# Altium integrated library NXP Semiconductors Automotive MOSFETs.IntLib: 540 symbols (part 4 of 16)
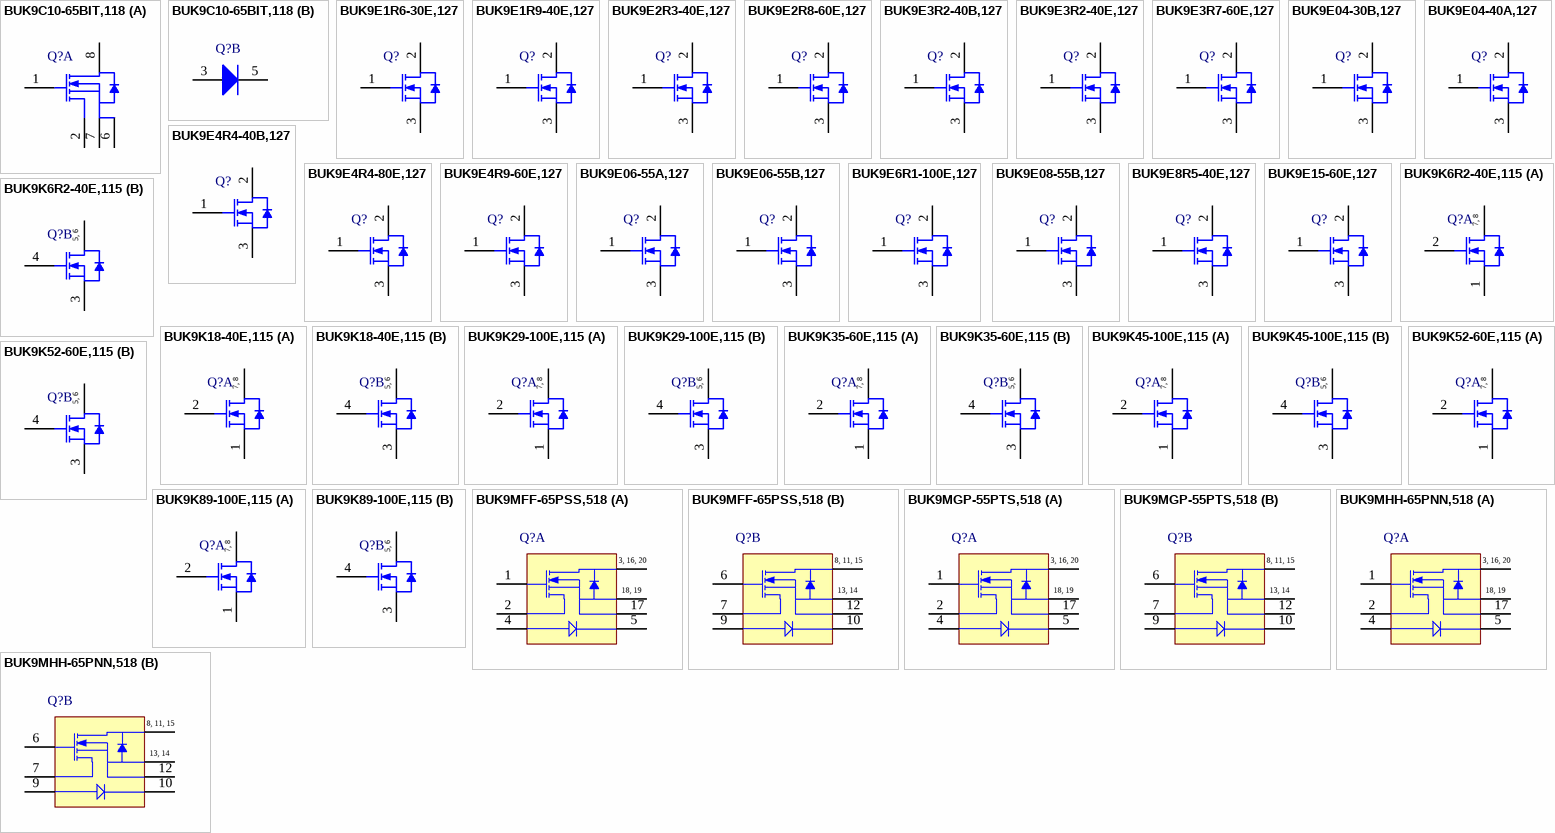
[diagram p17: symbols BUK9C10-65BIT,118 to BUK9MHH-65PNN,518]

## BUK9E2R3-40E,127
designator Q?
N-Channel TrenchMOS Logic Level FET, 40 V, 120 A, 3-Pin SOT226, Rail; Manufacturer: NXP Semiconductors; PartNumber: BUK9E2R3-40E,127; Automotive Qualified: Y; Channel Type: N; ID [max] (A): 120; IDM [max] (A): 988; Qr [typ] (nC): 62; VDS [max] (V): 40; VGSth [typ] (V): 1.7; PackageVersion: 09-08-25, 08/2009; PackageReference: SOT226; PackageDescription: 3-Pin Flange Mount, Vertical Straight Lead, Body 10 x 4.3 mm, Pitch 2.54 mm; Supplier 1: Digi-Key; Supplier Part Number 1: 568-9871-5-ND; Supplier 2: Mouser; Supplier Part Number 2: 771-BUK9E2R3-40E127; Packing: Rail; Mounting Technology: Through Hole; Code_JEDEC: TO-262; ComponentLink1Description: Manufacturer URL; ComponentLink1URL: http://www.nxp.com/; ComponentLink2Description: Datasheet; ComponentLink2URL: http://www.nxp.com/documents/data_sheet/BUK9E2R3-40E.pdf; ComponentLink3Description: Package Specification; ComponentLink3URL: http://www.nxp.com/documents/outline_drawing/sot226_po.pdf
footprint NXP-SOT226 (FM, 3-Leads, Body 10.3x4.5mm, Pitch 2.54mm)
pins: 1 G "gate", 2 D "drain", 3 S "source"

## BUK9E2R8-60E,127
designator Q?
N-Channel TrenchMOS Logic Level FET, 60 V, 120 A, 3-Pin SOT226, Rail; Manufacturer: NXP Semiconductors; PartNumber: BUK9E2R8-60E,127; Automotive Qualified: Y; Channel Type: N; ID [max] (A): 120; IDM [max] (A): 952; Qr [typ] (nC): 98; VDS [max] (V): 60; VGSth [typ] (V): 1.7; PackageVersion: 09-08-25, 08/2009; PackageReference: SOT226; PackageDescription: 3-Pin Flange Mount, Vertical Straight Lead, Body 10 x 4.3 mm, Pitch 2.54 mm; Supplier 1: Digi-Key; Supplier Part Number 1: 568-9872-5-ND; Supplier 2: Mouser; Supplier Part Number 2: 771-BUK9E2R8-60E127; Packing: Rail; Mounting Technology: Through Hole; Code_JEDEC: TO-262; ComponentLink1Description: Manufacturer URL; ComponentLink1URL: http://www.nxp.com/; ComponentLink2Description: Datasheet; ComponentLink2URL: http://www.nxp.com/documents/data_sheet/BUK9E2R8-60E.pdf; ComponentLink3Description: Package Specification; ComponentLink3URL: http://www.nxp.com/documents/outline_drawing/sot226_po.pdf
footprint NXP-SOT226 (FM, 3-Leads, Body 10.3x4.5mm, Pitch 2.54mm)
pins: 1 G "gate", 2 D "drain", 3 S "source"

## BUK9E3R2-40B,127
designator Q?
N-Channel TrenchMOS Logic Level FET, 40 V, 3-Pin SOT226, Rail; Manufacturer: NXP Semiconductors; PartNumber: BUK9E3R2-40B,127; Automotive Qualified: Y; Channel Type: N; IDM [max] (A): 888; Qr [typ] (nC): 127; VDS [max] (V): 40; VGSth [typ] (V): 1.5; PackageVersion: 09-08-25, 08/2009; PackageReference: SOT226; PackageDescription: 3-Pin Flange Mount, Vertical Straight Lead, Body 10 x 4.3 mm, Pitch 2.54 mm; Supplier 1: Digi-Key; Supplier Part Number 1: 568-6639-5-ND; Supplier 2: Mouser; Supplier Part Number 2: 771-BUK9E3R2-40B127; Packing: Rail; Mounting Technology: Through Hole; Code_JEDEC: TO-262; ComponentLink1Description: Manufacturer URL; ComponentLink1URL: http://www.nxp.com/; ComponentLink2Description: Datasheet; ComponentLink2URL: http://www.nxp.com/documents/data_sheet/BUK9E3R2-40B.pdf; ComponentLink3Description: Package Specification; ComponentLink3URL: http://www.nxp.com/documents/outline_drawing/sot226_po.pdf
footprint NXP-SOT226 (FM, 3-Leads, Body 10.3x4.5mm, Pitch 2.54mm)
pins: 1 G "gate", 2 D "drain", 3 S "source"

## BUK9E3R2-40E,127
designator Q?
N-Channel TrenchMOS Logic Level FET, 40 V, 100 A, 3-Pin SOT226, Rail; Manufacturer: NXP Semiconductors; PartNumber: BUK9E3R2-40E,127; Automotive Qualified: Y; Channel Type: N; ID [max] (A): 100; IDM [max] (A): 781; Qr [typ] (nC): 47; VDS [max] (V): 40; VGSth [typ] (V): 1.7; PackageVersion: 09-08-25, 08/2009; PackageReference: SOT226; PackageDescription: 3-Pin Flange Mount, Vertical Straight Lead, Body 10 x 4.3 mm, Pitch 2.54 mm; Supplier 1: Digi-Key; Supplier Part Number 1: 568-9873-5-ND; Supplier 2: Mouser; Supplier Part Number 2: 771-BUK9E3R2-40E127; Packing: Rail; Mounting Technology: Through Hole; Code_JEDEC: TO-262; ComponentLink1Description: Manufacturer URL; ComponentLink1URL: http://www.nxp.com/; ComponentLink2Description: Datasheet; ComponentLink2URL: http://www.nxp.com/documents/data_sheet/BUK9E3R2-40E.pdf; ComponentLink3Description: Package Specification; ComponentLink3URL: http://www.nxp.com/documents/outline_drawing/sot226_po.pdf
footprint NXP-SOT226 (FM, 3-Leads, Body 10.3x4.5mm, Pitch 2.54mm)
pins: 1 G "gate", 2 D "drain", 3 S "source"

## BUK9E3R7-60E,127
designator Q?
N-Channel TrenchMOS Logic Level FET, 60 V, 120 A, 3-Pin SOT226, Rail; Manufacturer: NXP Semiconductors; PartNumber: BUK9E3R7-60E,127; Automotive Qualified: Y; Channel Type: N; ID [max] (A): 120; IDM [max] (A): 758; Qr [typ] (nC): 67; VDS [max] (V): 60; VGSth [typ] (V): 1.7; PackageVersion: 09-08-25, 08/2009; PackageReference: SOT226; PackageDescription: 3-Pin Flange Mount, Vertical Straight Lead, Body 10 x 4.3 mm, Pitch 2.54 mm; Supplier 1: Digi-Key; Supplier Part Number 1: 568-9874-5-ND; Supplier 2: Mouser; Supplier Part Number 2: 771-BUK9E3R7-60E127; Packing: Rail; Mounting Technology: Through Hole; Code_JEDEC: TO-262; ComponentLink1Description: Manufacturer URL; ComponentLink1URL: http://www.nxp.com/; ComponentLink2Description: Datasheet; ComponentLink2URL: http://www.nxp.com/documents/data_sheet/BUK9E3R7-60E.pdf; ComponentLink3Description: Package Specification; ComponentLink3URL: http://www.nxp.com/documents/outline_drawing/sot226_po.pdf
footprint NXP-SOT226 (FM, 3-Leads, Body 10.3x4.5mm, Pitch 2.54mm)
pins: 1 G "gate", 2 D "drain", 3 S "source"

## BUK9E04-30B,127
designator Q?
N-Channel TrenchMOS Logic Level FET, 30 V, 3-Pin SOT226, Rail; Manufacturer: NXP Semiconductors; PartNumber: BUK9E04-30B,127; Automotive Qualified: Y; Channel Type: N; IDM [max] (A): 732; Qr [typ] (nC): 53; VDS [max] (V): 30; VGSth [typ] (V): 1.5; DatasheetVersion: Rev. 02; PackageVersion: 09-08-25, 08/2009; PackageReference: SOT226; PackageDescription: 3-Pin Flange Mount, Vertical Straight Lead, Body 10 x 4.3 mm, Pitch 2.54 mm; Supplier 1: Digi-Key; Supplier Part Number 1: 568-6637-5-ND; Supplier 2: Mouser; Supplier Part Number 2: 771-BUK9E04-30B127; Packing: Rail; Mounting Technology: Through Hole; Code_JEDEC: TO-262; ComponentLink1Description: Manufacturer URL; ComponentLink1URL: http://www.nxp.com/; ComponentLink2Description: Datasheet; ComponentLink2URL: http://www.nxp.com/documents/data_sheet/BUK9E04-30B.pdf; ComponentLink3Description: Package Specification; ComponentLink3URL: http://www.nxp.com/documents/outline_drawing/sot226_po.pdf
footprint NXP-SOT226 (FM, 3-Leads, Body 10.3x4.5mm, Pitch 2.54mm)
pins: 1 G "gate", 2 D "drain", 3 S "source"

## BUK9E04-40A,127
designator Q?
N-Channel TrenchMOS Logic Level FET, 40 V, 3-Pin SOT226, Rail; Manufacturer: NXP Semiconductors; PartNumber: BUK9E04-40A,127; Automotive Qualified: Y; Channel Type: N; IDM [max] (A): 794; Qr [typ] (nC): 531; VDS [max] (V): 40; VGSth [typ] (V): 1.5; DatasheetVersion: Rev. 02; PackageVersion: 09-08-25, 08/2009; PackageReference: SOT226; PackageDescription: 3-Pin Flange Mount, Vertical Straight Lead, Body 10 x 4.3 mm, Pitch 2.54 mm; Supplier 1: Digi-Key; Supplier Part Number 1: BUK9E04-40A,127-ND; Supplier 2: Mouser; Supplier Part Number 2: 771-BUK9E04-40A,127; Packing: Rail; Mounting Technology: Through Hole; Code_JEDEC: TO-262; ComponentLink1Description: Manufacturer URL; ComponentLink1URL: http://www.nxp.com/; ComponentLink2Description: Datasheet; ComponentLink2URL: http://www.nxp.com/documents/data_sheet/BUK9E04-40A.pdf; ComponentLink3Description: Package Specification; ComponentLink3URL: http://www.nxp.com/documents/outline_drawing/sot226_po.pdf
footprint NXP-SOT226 (FM, 3-Leads, Body 10.3x4.5mm, Pitch 2.54mm)
pins: 1 G "gate", 2 D "drain", 3 S "source"

## BUK9E4R4-40B,127
designator Q?
N-Channel TrenchMOS Logic Level FET, 40 V, 3-Pin SOT226, Rail; Manufacturer: NXP Semiconductors; PartNumber: BUK9E4R4-40B,127; Automotive Qualified: Y; Channel Type: N; IDM [max] (A): 697; Qr [typ] (nC): 67; VDS [max] (V): 40; VGSth [typ] (V): 1.5; DatasheetVersion: Rev. 03; PackageVersion: 09-08-25, 08/2009; PackageReference: SOT226; PackageDescription: 3-Pin Flange Mount, Vertical Straight Lead, Body 10 x 4.3 mm, Pitch 2.54 mm; Supplier 1: Digi-Key; Supplier Part Number 1: 568-5733-5-ND; Supplier 2: Mouser; Supplier Part Number 2: 771-BUK9E4R4-40B127; Packing: Rail; Mounting Technology: Through Hole; Code_JEDEC: TO-262; ComponentLink1Description: Manufacturer URL; ComponentLink1URL: http://www.nxp.com/; ComponentLink2Description: Datasheet; ComponentLink2URL: http://www.nxp.com/documents/data_sheet/BUK9E4R4-40B.pdf; ComponentLink3Description: Package Specification; ComponentLink3URL: http://www.nxp.com/documents/outline_drawing/sot226_po.pdf
footprint NXP-SOT226 (FM, 3-Leads, Body 10.3x4.5mm, Pitch 2.54mm)
pins: 1 G "gate", 2 D "drain", 3 S "source"

## BUK9E4R4-80E,127
designator Q?
N-Channel TrenchMOS Logic Level FET, 80 V, 120 A, 3-Pin SOT226, Rail; Manufacturer: NXP Semiconductors; PartNumber: BUK9E4R4-80E,127; Automotive Qualified: Y; Channel Type: N; ID [max] (A): 120; IDM [max] (A): 715; Qr [typ] (nC): 139; VDS [max] (V): 80; VGSth [typ] (V): 1.7; PackageVersion: 09-08-25, 08/2009; PackageReference: SOT226; PackageDescription: 3-Pin Flange Mount, Vertical Straight Lead, Body 10 x 4.3 mm, Pitch 2.54 mm; Supplier 1: Digi-Key; Supplier Part Number 1: 568-9875-5-ND; Supplier 2: Newark; Supplier Part Number 2: 45W7266; Supplier 3: Mouser; Supplier Part Number 3: 771-BUK9E4R4-80E127; Packing: Rail; Mounting Technology: Through Hole; Code_JEDEC: TO-262; ComponentLink1Description: Manufacturer URL; ComponentLink1URL: http://www.nxp.com/; ComponentLink2Description: Datasheet; ComponentLink2URL: http://www.nxp.com/documents/data_sheet/BUK9E4R4-80E.pdf; ComponentLink3Description: Package Specification; ComponentLink3URL: http://www.nxp.com/documents/outline_drawing/sot226_po.pdf
footprint NXP-SOT226 (FM, 3-Leads, Body 10.3x4.5mm, Pitch 2.54mm)
pins: 1 G "gate", 2 D "drain", 3 S "source"

## BUK9E4R9-60E,127
designator Q?
N-Channel TrenchMOS Logic Level FET, 60 V, 100 A, 3-Pin SOT226, Rail; Manufacturer: NXP Semiconductors; PartNumber: BUK9E4R9-60E,127; Automotive Qualified: Y; Channel Type: N; ID [max] (A): 100; IDM [max] (A): 590; Qr [typ] (nC): 56; VDS [max] (V): 60; VGSth [typ] (V): 1.7; PackageVersion: 09-08-25, 08/2009; PackageReference: SOT226; PackageDescription: 3-Pin Flange Mount, Vertical Straight Lead, Body 10 x 4.3 mm, Pitch 2.54 mm; Supplier 1: Digi-Key; Supplier Part Number 1: 568-9876-5-ND; Supplier 2: Mouser; Supplier Part Number 2: 771-BUK9E4R9-60E127; Packing: Rail; Mounting Technology: Through Hole; Code_JEDEC: TO-262; ComponentLink1Description: Manufacturer URL; ComponentLink1URL: http://www.nxp.com/; ComponentLink2Description: Datasheet; ComponentLink2URL: http://www.nxp.com/documents/data_sheet/BUK9E4R9-60E.pdf; ComponentLink3Description: Package Specification; ComponentLink3URL: http://www.nxp.com/documents/outline_drawing/sot226_po.pdf
footprint NXP-SOT226 (FM, 3-Leads, Body 10.3x4.5mm, Pitch 2.54mm)
pins: 1 G "gate", 2 D "drain", 3 S "source"

## BUK9E06-55A,127
designator Q?
N-Channel TrenchMOS Logic Level FET, 55 V, 3-Pin SOT226, Rail; Manufacturer: NXP Semiconductors; PartNumber: BUK9E06-55A,127; Automotive Qualified: Y; Channel Type: N; IDM [max] (A): 616; Qr [typ] (nC): 200; VDS [max] (V): 55; VGSth [typ] (V): 1.5; DatasheetVersion: Rev. 04; PackageVersion: 09-08-25, 08/2009; PackageReference: SOT226; PackageDescription: 3-Pin Flange Mount, Vertical Straight Lead, Body 10 x 4.3 mm, Pitch 2.54 mm; Supplier 1: Digi-Key; Supplier Part Number 1: 568-9751-5-ND; Supplier 2: Mouser; Supplier Part Number 2: 771-BUK9E06-55A,127; Packing: Rail; Mounting Technology: Through Hole; Code_JEDEC: TO-262; ComponentLink1Description: Manufacturer URL; ComponentLink1URL: http://www.nxp.com/; ComponentLink2Description: Datasheet; ComponentLink2URL: http://www.nxp.com/documents/data_sheet/BUK9E06-55A.pdf; ComponentLink3Description: Package Specification; ComponentLink3URL: http://www.nxp.com/documents/outline_drawing/sot226_po.pdf
footprint NXP-SOT226 (FM, 3-Leads, Body 10.3x4.5mm, Pitch 2.54mm)
pins: 1 G "gate", 2 D "drain", 3 S "source"

## BUK9E06-55B,127
designator Q?
N-Channel TrenchMOS FET, 55 V, 3-Pin SOT226, Rail; Manufacturer: NXP Semiconductors; PartNumber: BUK9E06-55B,127; Automotive Qualified: Y; Channel Type: N; IDM [max] (A): 587; Qr [typ] (nC): 79; VDS [max] (V): 55; VGSth [typ] (V): 1.5; DatasheetVersion: Rev. 04; PackageVersion: 09-08-25, 08/2009; PackageReference: SOT226; PackageDescription: 3-Pin Flange Mount, Vertical Straight Lead, Body 10 x 4.3 mm, Pitch 2.54 mm; Supplier 1: Digi-Key; Supplier Part Number 1: 568-6638-5-ND; Supplier 2: Mouser; Supplier Part Number 2: 771-BUK9E06-55B127; Packing: Rail; Mounting Technology: Through Hole; Code_JEDEC: TO-262; ComponentLink1Description: Manufacturer URL; ComponentLink1URL: http://www.nxp.com/; ComponentLink2Description: Datasheet; ComponentLink2URL: http://www.nxp.com/documents/data_sheet/BUK9E06-55B.pdf; ComponentLink3Description: Package Specification; ComponentLink3URL: http://www.nxp.com/documents/outline_drawing/sot226_po.pdf
footprint NXP-SOT226 (FM, 3-Leads, Body 10.3x4.5mm, Pitch 2.54mm)
pins: 1 G "gate", 2 D "drain", 3 S "source"

## BUK9E6R1-100E,127
designator Q?
N-Channel TrenchMOS Logic Level FET, 100 V, 120 A, 3-Pin SOT226, Rail; Manufacturer: NXP Semiconductors; PartNumber: BUK9E6R1-100E,127; Automotive Qualified: Y; Channel Type: N; ID [max] (A): 120; IDM [max] (A): 576; Qr [typ] (nC): 202; VDS [max] (V): 100; VGSth [typ] (V): 1.7; PackageVersion: 09-08-25, 08/2009; PackageReference: SOT226; PackageDescription: 3-Pin Flange Mount, Vertical Straight Lead, Body 10 x 4.3 mm, Pitch 2.54 mm; Supplier 1: Digi-Key; Supplier Part Number 1: 568-9877-5-ND; Supplier 2: Mouser; Supplier Part Number 2: 771-BUK9E6R1-100E127; Packing: Rail; Mounting Technology: Through Hole; Code_JEDEC: TO-262; ComponentLink1Description: Manufacturer URL; ComponentLink1URL: http://www.nxp.com/; ComponentLink2Description: Datasheet; ComponentLink2URL: http://www.nxp.com/documents/data_sheet/BUK9E6R1-100E.pdf; ComponentLink3Description: Package Specification; ComponentLink3URL: http://www.nxp.com/documents/outline_drawing/sot226_po.pdf
footprint NXP-SOT226 (FM, 3-Leads, Body 10.3x4.5mm, Pitch 2.54mm)
pins: 1 G "gate", 2 D "drain", 3 S "source"

## BUK9E08-55B,127
designator Q?
N-Channel TrenchMOS Logic Level FET, 55 V, 3-Pin SOT226, Rail; Manufacturer: NXP Semiconductors; PartNumber: BUK9E08-55B,127; Automotive Qualified: Y; Channel Type: N; IDM [max] (A): 439; Qr [typ] (nC): 72; VDS [max] (V): 55; VGSth [typ] (V): 1.5; DatasheetVersion: Rev. 03; PackageVersion: 09-08-25, 08/2009; PackageReference: SOT226; PackageDescription: 3-Pin Flange Mount, Vertical Straight Lead, Body 10 x 4.3 mm, Pitch 2.54 mm; Supplier 1: Digi-Key; Supplier Part Number 1: 568-5732-5-ND; Supplier 2: Mouser; Supplier Part Number 2: 771-BUK9E08-55B,127; Packing: Rail; Mounting Technology: Through Hole; Code_JEDEC: TO-262; ComponentLink1Description: Manufacturer URL; ComponentLink1URL: http://www.nxp.com/; ComponentLink2Description: Datasheet; ComponentLink2URL: http://www.nxp.com/documents/data_sheet/BUK9E08-55B.pdf; ComponentLink3Description: Package Specification; ComponentLink3URL: http://www.nxp.com/documents/outline_drawing/sot226_po.pdf
footprint NXP-SOT226 (FM, 3-Leads, Body 10.3x4.5mm, Pitch 2.54mm)
pins: 1 G "gate", 2 D "drain", 3 S "source"

## BUK9E8R5-40E,127
designator Q?
N-Channel TrenchMOS Logic Level FET, 40 V, 75 A, 3-Pin SOT226, Rail; Manufacturer: NXP Semiconductors; PartNumber: BUK9E8R5-40E,127; Automotive Qualified: Y; Channel Type: N; ID [max] (A): 75; IDM [max] (A): 315; Qr [typ] (nC): 13.6; VDS [max] (V): 40; VGSth [typ] (V): 1.7; PackageVersion: 09-08-25, 08/2009; PackageReference: SOT226; PackageDescription: 3-Pin Flange Mount, Vertical Straight Lead, Body 10 x 4.3 mm, Pitch 2.54 mm; Supplier 1: Digi-Key; Supplier Part Number 1: 568-9878-5-ND; Supplier 2: Mouser; Supplier Part Number 2: 771-BUK9E8R5-40E127; Packing: Rail; Mounting Technology: Through Hole; Code_JEDEC: TO-262; ComponentLink1Description: Manufacturer URL; ComponentLink1URL: http://www.nxp.com/; ComponentLink2Description: Datasheet; ComponentLink2URL: http://www.nxp.com/documents/data_sheet/BUK9E8R5-40E.pdf; ComponentLink3Description: Package Specification; ComponentLink3URL: http://www.nxp.com/documents/outline_drawing/sot226_po.pdf
footprint NXP-SOT226 (FM, 3-Leads, Body 10.3x4.5mm, Pitch 2.54mm)
pins: 1 G "gate", 2 D "drain", 3 S "source"

## BUK9E15-60E,127
designator Q?
N-Channel TrenchMOS Logic Level FET, 60 V, 54 A, 3-Pin SOT226, Rail; Manufacturer: NXP Semiconductors; PartNumber: BUK9E15-60E,127; Automotive Qualified: Y; Channel Type: N; ID [max] (A): 54; IDM [max] (A): 216; Qr [typ] (nC): 20.9; VDS [max] (V): 60; VGSth [typ] (V): 1.7; PackageVersion: 09-08-25, 08/2009; PackageReference: SOT226; PackageDescription: 3-Pin Flange Mount, Vertical Straight Lead, Body 10 x 4.3 mm, Pitch 2.54 mm; Supplier 1: Digi-Key; Supplier Part Number 1: 568-9868-5-ND; Supplier 2: Mouser; Supplier Part Number 2: 771-BUK9E15-60E127; Packing: Rail; Mounting Technology: Through Hole; Code_JEDEC: TO-262; ComponentLink1Description: Manufacturer URL; ComponentLink1URL: http://www.nxp.com/; ComponentLink2Description: Datasheet; ComponentLink2URL: http://www.nxp.com/documents/data_sheet/BUK9E15-60E.pdf; ComponentLink3Description: Package Specification; ComponentLink3URL: http://www.nxp.com/documents/outline_drawing/sot226_po.pdf
footprint NXP-SOT226 (FM, 3-Leads, Body 10.3x4.5mm, Pitch 2.54mm)
pins: 1 G "gate", 2 D "drain", 3 S "source"

## BUK9K6R2-40E,115
designator Q?
Dual N-Channel TrenchMOS Logic Level FET, 40 V, 40 A, 8-Pin SOT1205, Reel; Manufacturer: NXP Semiconductors; PartNumber: BUK9K6R2-40E,115; Automotive Qualified: Y; Channel Type: N; ID [max] (A): 40; IDM [max] (A): 295; Qr [typ] (nC): 16.8; VGSth [typ] (V): 1.7; PackageVersion: 14-08-21, 08/2014; PackageReference: SOT1205; PackageDescription: 8-Pin Plastic Single-ended Surface Mounted Package, Body 5.125 x 4.575 mm, Pitch 1.27 mm; Supplier 1: Digi-Key; Supplier Part Number 1: 568-9904-2-ND; Supplier 2: Digi-Key; Supplier Part Number 2: 568-9904-1-ND; Supplier 3: Digi-Key; Supplier Part Number 3: 568-9904-6-ND; Supplier 4: Mouser; Supplier Part Number 4: 771-BUK9K6R2-40E115; Packing: Reel; VDS [max] (V): 40; Mounting Technology: Surface Mount; ComponentLink1Description: Manufacturer URL; ComponentLink1URL: http://www.nxp.com/; ComponentLink2Description: Datasheet; ComponentLink2URL: http://www.nxp.com/documents/data_sheet/BUK9K6R2-40E.pdf; ComponentLink3Description: Package Specification; ComponentLink3URL: http://www.nxp.com/documents/outline_drawing/sot1205_po.pdf
footprint NXP-SOT1205_N (DPAK, 8-Leads, Body 5.3x4.7mm, Pitch 1.27mm, IPC Medium Density)
footprint NXP-SOT1205_L (DPAK, 8-Leads, Body 5.3x4.7mm, Pitch 1.27mm, IPC High Density)
footprint NXP-SOT1205_M (DPAK, 8-Leads, Body 5.3x4.7mm, Pitch 1.27mm, IPC Low Density)
part A pins: 1 S1 "source1", 2 G1 "gate1", 7 D1 "drain1", 8 D1 "drain1"
part B pins: 3 S2 "source2", 4 G2 "gate2", 5 D2 "drain2", 6 D2 "drain2"
part A text: 7, 8
part B text: 5, 6

## BUK9K18-40E,115
designator Q?
Dual N-Channel TrenchMOS Logic Level FET, 40 V, 30 A, 8-Pin SOT1205, Reel; Manufacturer: NXP Semiconductors; PartNumber: BUK9K18-40E,115; Automotive Qualified: Y; Channel Type: N; ID [max] (A): 30; IDM [max] (A): 124; Qr [typ] (nC): 16.8; VDS [max] (V): 40; VGSth [typ] (V): 1.7; PackageVersion: 14-08-21, 08/2014; PackageReference: SOT1205; PackageDescription: 8-Pin Plastic Single-ended Surface Mounted Package, Body 5.125 x 4.575 mm, Pitch 1.27 mm; Supplier 1: Digi-Key; Supplier Part Number 1: 568-9899-2-ND; Supplier 2: Digi-Key; Supplier Part Number 2: 568-9899-1-ND; Supplier 3: Digi-Key; Supplier Part Number 3: 568-9899-6-ND; Supplier 4: Mouser; Supplier Part Number 4: 771-BUK9K18-40E115; Packing: Reel; Mounting Technology: Surface Mount; ComponentLink1Description: Manufacturer URL; ComponentLink1URL: http://www.nxp.com/; ComponentLink2Description: Datasheet; ComponentLink2URL: http://www.nxp.com/documents/data_sheet/BUK9K18-40E.pdf; ComponentLink3Description: Package Specification; ComponentLink3URL: http://www.nxp.com/documents/outline_drawing/sot1205_po.pdf
footprint NXP-SOT1205_N (DPAK, 8-Leads, Body 5.3x4.7mm, Pitch 1.27mm, IPC Medium Density)
footprint NXP-SOT1205_L (DPAK, 8-Leads, Body 5.3x4.7mm, Pitch 1.27mm, IPC High Density)
footprint NXP-SOT1205_M (DPAK, 8-Leads, Body 5.3x4.7mm, Pitch 1.27mm, IPC Low Density)
part A pins: 1 S1 "source1", 2 G1 "gate1", 7 D1 "drain1", 8 D1 "drain1"
part B pins: 3 S2 "source2", 4 G2 "gate2", 5 D2 "drain2", 6 D2 "drain2"
part A text: 7, 8
part B text: 5, 6

## BUK9K29-100E,115
designator Q?
Dual N-Channel TrenchMOS Logic Level FET, 100 V, 30 A, 8-Pin SOT1205, Reel; Manufacturer: NXP Semiconductors; PartNumber: BUK9K29-100E,115; Automotive Qualified: Y; Channel Type: N; ID [max] (A): 30; IDM [max] (A): 118; Qr [typ] (nC): 50.1; VDS [max] (V): 100; VGSth [typ] (V): 1.7; PackageVersion: 14-08-21, 08/2014; PackageReference: SOT1205; PackageDescription: 8-Pin Plastic Single-ended Surface Mounted Package, Body 5.125 x 4.575 mm, Pitch 1.27 mm; Supplier 1: Digi-Key; Supplier Part Number 1: 568-9900-2-ND; Supplier 2: Digi-Key; Supplier Part Number 2: 568-9900-1-ND; Supplier 3: Digi-Key; Supplier Part Number 3: 568-9900-6-ND; Supplier 4: Newark; Supplier Part Number 4: 45W7271; Supplier 5: Mouser; Supplier Part Number 5: 771-BUK9K29-100E115; Packing: Reel; Mounting Technology: Surface Mount; ComponentLink1Description: Manufacturer URL; ComponentLink1URL: http://www.nxp.com/; ComponentLink2Description: Datasheet; ComponentLink2URL: http://www.nxp.com/documents/data_sheet/BUK9K29-100E.pdf; ComponentLink3Description: Package Specification; ComponentLink3URL: http://www.nxp.com/documents/outline_drawing/sot1205_po.pdf
footprint NXP-SOT1205_N (DPAK, 8-Leads, Body 5.3x4.7mm, Pitch 1.27mm, IPC Medium Density)
footprint NXP-SOT1205_L (DPAK, 8-Leads, Body 5.3x4.7mm, Pitch 1.27mm, IPC High Density)
footprint NXP-SOT1205_M (DPAK, 8-Leads, Body 5.3x4.7mm, Pitch 1.27mm, IPC Low Density)
part A pins: 1 S1 "source1", 2 G1 "gate1", 7 D1 "drain1", 8 D1 "drain1"
part B pins: 3 S2 "source2", 4 G2 "gate2", 5 D2 "drain2", 6 D2 "drain2"
part A text: 7, 8
part B text: 5, 6

## BUK9K35-60E,115
designator Q?
Dual N-Channel TrenchMOS Logic Level FET, 60 V, 22 A, 8-Pin SOT1205, Reel; Manufacturer: NXP Semiconductors; PartNumber: BUK9K35-60E,115; Automotive Qualified: Y; Channel Type: N; ID [max] (A): 22; IDM [max] (A): 90; Qr [typ] (nC): 12.1; VDS [max] (V): 60; VGSth [typ] (V): 1.7; PackageVersion: 14-08-21, 08/2014; PackageReference: SOT1205; PackageDescription: 8-Pin Plastic Single-ended Surface Mounted Package, Body 5.125 x 4.575 mm, Pitch 1.27 mm; Supplier 1: Digi-Key; Supplier Part Number 1: 568-9901-2-ND; Supplier 2: Digi-Key; Supplier Part Number 2: 568-9901-1-ND; Supplier 3: Digi-Key; Supplier Part Number 3: 568-9901-6-ND; Supplier 4: Mouser; Supplier Part Number 4: 771-BUK9K35-60E115; Packing: Reel; Mounting Technology: Surface Mount; ComponentLink1Description: Manufacturer URL; ComponentLink1URL: http://www.nxp.com/; ComponentLink2Description: Datasheet; ComponentLink2URL: http://www.nxp.com/documents/data_sheet/BUK9K35-60E.pdf; ComponentLink3Description: Package Specification; ComponentLink3URL: http://www.nxp.com/documents/outline_drawing/sot1205_po.pdf
footprint NXP-SOT1205_N (DPAK, 8-Leads, Body 5.3x4.7mm, Pitch 1.27mm, IPC Medium Density)
footprint NXP-SOT1205_L (DPAK, 8-Leads, Body 5.3x4.7mm, Pitch 1.27mm, IPC High Density)
footprint NXP-SOT1205_M (DPAK, 8-Leads, Body 5.3x4.7mm, Pitch 1.27mm, IPC Low Density)
part A pins: 1 S1 "source1", 2 G1 "gate1", 7 D1 "drain1", 8 D1 "drain1"
part B pins: 3 S2 "source2", 4 G2 "gate2", 5 D2 "drain2", 6 D2 "drain2"
part A text: 7, 8
part B text: 5, 6

## BUK9K45-100E,115
designator Q?
Dual N-Channel TrenchMOS Logic Level FET, 100 V, 21 A, 8-Pin SOT1205, Reel; Manufacturer: NXP Semiconductors; PartNumber: BUK9K45-100E,115; Automotive Qualified: Y; Channel Type: N; ID [max] (A): 21; IDM [max] (A): 83; Qr [typ] (nC): 42.9; VDS [max] (V): 100; VGSth [typ] (V): 1.7; PackageVersion: 14-08-21, 08/2014; PackageReference: SOT1205; PackageDescription: 8-Pin Plastic Single-ended Surface Mounted Package, Body 5.125 x 4.575 mm, Pitch 1.27 mm; Supplier 1: Digi-Key; Supplier Part Number 1: 568-9902-2-ND; Supplier 2: Digi-Key; Supplier Part Number 2: 568-9902-1-ND; Supplier 3: Digi-Key; Supplier Part Number 3: 568-9902-6-ND; Supplier 4: Mouser; Supplier Part Number 4: 771-BUK9K45-100E115; Packing: Reel; Mounting Technology: Surface Mount; ComponentLink1Description: Manufacturer URL; ComponentLink1URL: http://www.nxp.com/; ComponentLink2Description: Datasheet; ComponentLink2URL: http://www.nxp.com/documents/data_sheet/BUK9K45-100E.pdf; ComponentLink3Description: Package Specification; ComponentLink3URL: http://www.nxp.com/documents/outline_drawing/sot1205_po.pdf
footprint NXP-SOT1205_N (DPAK, 8-Leads, Body 5.3x4.7mm, Pitch 1.27mm, IPC Medium Density)
footprint NXP-SOT1205_L (DPAK, 8-Leads, Body 5.3x4.7mm, Pitch 1.27mm, IPC High Density)
footprint NXP-SOT1205_M (DPAK, 8-Leads, Body 5.3x4.7mm, Pitch 1.27mm, IPC Low Density)
part A pins: 1 S1 "source1", 2 G1 "gate1", 7 D1 "drain1", 8 D1 "drain1"
part B pins: 3 S2 "source2", 4 G2 "gate2", 5 D2 "drain2", 6 D2 "drain2"
part A text: 7, 8
part B text: 5, 6

## BUK9K52-60E,115
designator Q?
Dual N-Channel TrenchMOS Logic Level FET, 60 V, 16 A, 8-Pin SOT1205, Reel; Manufacturer: NXP Semiconductors; PartNumber: BUK9K52-60E,115; Automotive Qualified: Y; Channel Type: N; ID [max] (A): 16; IDM [max] (A): 64; Qr [typ] (nC): 11.6; VDS [max] (V): 60; VGSth [typ] (V): 1.7; PackageVersion: 14-08-21, 08/2014; PackageReference: SOT1205; PackageDescription: 8-Pin Plastic Single-ended Surface Mounted Package, Body 5.125 x 4.575 mm, Pitch 1.27 mm; Supplier 1: Digi-Key; Supplier Part Number 1: 568-9903-2-ND; Supplier 2: Digi-Key; Supplier Part Number 2: 568-9903-1-ND; Supplier 3: Digi-Key; Supplier Part Number 3: 568-9903-6-ND; Supplier 4: Mouser; Supplier Part Number 4: 771-BUK9K52-60E115; Packing: Reel; Mounting Technology: Surface Mount; ComponentLink1Description: Manufacturer URL; ComponentLink1URL: http://www.nxp.com/; ComponentLink2Description: Datasheet; ComponentLink2URL: http://www.nxp.com/documents/data_sheet/BUK9K52-60E.pdf; ComponentLink3Description: Package Specification; ComponentLink3URL: http://www.nxp.com/documents/outline_drawing/sot1205_po.pdf
footprint NXP-SOT1205_N (DPAK, 8-Leads, Body 5.3x4.7mm, Pitch 1.27mm, IPC Medium Density)
footprint NXP-SOT1205_L (DPAK, 8-Leads, Body 5.3x4.7mm, Pitch 1.27mm, IPC High Density)
footprint NXP-SOT1205_M (DPAK, 8-Leads, Body 5.3x4.7mm, Pitch 1.27mm, IPC Low Density)
part A pins: 1 S1 "source1", 2 G1 "gate1", 7 D1 "drain1", 8 D1 "drain1"
part B pins: 3 S2 "source2", 4 G2 "gate2", 5 D2 "drain2", 6 D2 "drain2"
part A text: 7, 8
part B text: 5, 6

## BUK9K89-100E,115
designator Q?
Dual N-Channel TrenchMOS Logic Level FET, 100 V, 12.5 A, 8-Pin SOT1205, Reel; Manufacturer: NXP Semiconductors; PartNumber: BUK9K89-100E,115; Automotive Qualified: Y; Channel Type: N; ID [max] (A): 12.5; IDM [max] (A): 50; Qr [typ] (nC): 39.9; VDS [max] (V): 100; VGSth [typ] (V): 1.7; PackageVersion: 14-08-21, 08/2014; PackageReference: SOT1205; PackageDescription: 8-Pin Plastic Single-ended Surface Mounted Package, Body 5.125 x 4.575 mm, Pitch 1.27 mm; Supplier 1: Digi-Key; Supplier Part Number 1: 568-9905-2-ND; Supplier 2: Digi-Key; Supplier Part Number 2: 568-9905-1-ND; Supplier 3: Digi-Key; Supplier Part Number 3: 568-9905-6-ND; Supplier 4: Mouser; Supplier Part Number 4: 771-BUK9K89-100E115; Packing: Reel; Mounting Technology: Surface Mount; ComponentLink1Description: Manufacturer URL; ComponentLink1URL: http://www.nxp.com/; ComponentLink2Description: Datasheet; ComponentLink2URL: http://www.nxp.com/documents/data_sheet/BUK9K89-100E.pdf; ComponentLink3Description: Package Specification; ComponentLink3URL: http://www.nxp.com/documents/outline_drawing/sot1205_po.pdf
footprint NXP-SOT1205_N (DPAK, 8-Leads, Body 5.3x4.7mm, Pitch 1.27mm, IPC Medium Density)
footprint NXP-SOT1205_L (DPAK, 8-Leads, Body 5.3x4.7mm, Pitch 1.27mm, IPC High Density)
footprint NXP-SOT1205_M (DPAK, 8-Leads, Body 5.3x4.7mm, Pitch 1.27mm, IPC Low Density)
part A pins: 1 S1 "source1", 2 G1 "gate1", 7 D1 "drain1", 8 D1 "drain1"
part B pins: 3 S2 "source2", 4 G2 "gate2", 5 D2 "drain2", 6 D2 "drain2"
part A text: 7, 8
part B text: 5, 6

## BUK9MFF-65PSS,518
designator Q?
Dual N-Channel TrenchPLUS Logic Level FET, 65 V, 13.6 A, 20-Pin SOT163-1, Reel; Manufacturer: NXP Semiconductors; PartNumber: BUK9MFF-65PSS,518; Automotive Qualified: Y; Channel Type: N; ID [max] (A): 13.6; IDM [max] (A): 272.1; Qr [typ] (nC): 0.127; VDS [max] (V): 65; VGSth [typ] (V): 1.5; Code_IEC: 750000; DatasheetVersion: Rev. 04; PackageVersion: 03-02-19, 02/2003; PackageReference: SOT163-1; PackageDescription: 20-Pin Plastic Small Outline Package, Body 12.8 x 7.5 mm, Pitch 1.27 mm; Packing: Reel; Mounting Technology: Surface Mount; Code_JEDEC: MS-013; ComponentLink1Description: Manufacturer URL; ComponentLink1URL: http://www.nxp.com/; ComponentLink2Description: Datasheet; ComponentLink2URL: http://www.nxp.com/documents/data_sheet/BUK9MFF-65PSS.pdf; ComponentLink3Description: Package Specification; ComponentLink3URL: http://www.nxp.com/documents/outline_drawing/sot163-1_po.pdf
footprint NXP-SOT163-1_N (SOP, 20-Leads, Body 13x7.60mm, Pitch 1.27mm, IPC Medium Density)
footprint NXP-SOT163-1_L (SOP, 20-Leads, Body 13x7.60mm, Pitch 1.27mm, IPC High Density)
footprint NXP-SOT163-1_M (SOP, 20-Leads, Body 13x7.60mm, Pitch 1.27mm, IPC Low Density)
part A pins: 1 G1 "gate 1", 2 IS1 "current sense 1", 3 D1 "drain", 4 A1 "anode 1", 5 C1 "cathode 1", 16 D1 "drain 1", 17 KS1 "Kelvin source 1", 18 S1 "source 1", 19 S1 "source 1", 20 D1 "drain 1"
part B pins: 6 G2 "gate 2", 7 IS2 "current sense 2", 8 D2 "drain 2", 9 A2 "anode 2", 10 C2 "cathode 2", 11 D2 "drain 2", 12 KS2 "Kelvin source 2", 13 S2 "source 2", 14 S2 "source 2", 15 D2 "drain 2"
part A text: 3, 16, 20; 18, 19
part B text: 8, 11, 15; 13, 14

## BUK9MGP-55PTS,518
designator Q?
Dual N-Channel TrenchPLUS Logic Level FET, 55 V, 20-Pin SOT163-1, Reel; Manufacturer: NXP Semiconductors; PartNumber: BUK9MGP-55PTS,518; Automotive Qualified: Y; Channel Type: N; VDS [max] (V): 55; VGSth [typ] (V): 1.5; Code_IEC: 750000; DatasheetVersion: Rev. 01; PackageVersion: 03-02-19, 02/2003; PackageReference: SOT163-1; PackageDescription: 20-Pin Plastic Small Outline Package, Body 12.8 x 7.5 mm, Pitch 1.27 mm; Packing: Reel; Mounting Technology: Surface Mount; Code_JEDEC: MS-013; ComponentLink1Description: Manufacturer URL; ComponentLink1URL: http://www.nxp.com/; ComponentLink2Description: Datasheet; ComponentLink2URL: http://www.nxp.com/documents/data_sheet/BUK9MGP-55PTS.pdf; ComponentLink3Description: Package Specification; ComponentLink3URL: http://www.nxp.com/documents/outline_drawing/sot163-1_po.pdf
footprint NXP-SOT163-1_N (SOP, 20-Leads, Body 13x7.60mm, Pitch 1.27mm, IPC Medium Density)
footprint NXP-SOT163-1_L (SOP, 20-Leads, Body 13x7.60mm, Pitch 1.27mm, IPC High Density)
footprint NXP-SOT163-1_M (SOP, 20-Leads, Body 13x7.60mm, Pitch 1.27mm, IPC Low Density)
part A pins: 1 G1 "gate 1", 2 IS1 "current sense 1", 3 D1 "drain", 4 A1 "anode 1", 5 C1 "cathode 1", 16 D1 "drain 1", 17 KS1 "Kelvin source 1", 18 S1 "source 1", 19 S1 "source 1", 20 D1 "drain 1"
part B pins: 6 G2 "gate 2", 7 IS2 "current sense 2", 8 D2 "drain 2", 9 A2 "anode 2", 10 C2 "cathode 2", 11 D2 "drain 2", 12 KS2 "Kelvin source 2", 13 S2 "source 2", 14 S2 "source 2", 15 D2 "drain 2"
part A text: 3, 16, 20; 18, 19
part B text: 8, 11, 15; 13, 14

## BUK9MHH-65PNN,518
designator Q?
Dual N-Channel TrenchPLUS Logic Level FET, 65 V, 15 A, 20-Pin SOT163-1, Reel; Manufacturer: NXP Semiconductors; PartNumber: BUK9MHH-65PNN,518; Automotive Qualified: Y; Channel Type: N; ID [max] (A): 15; IDM [max] (A): 319; Qr [typ] (nC): 0.131; VDS [max] (V): 65; VGSth [typ] (V): 1.5; Code_IEC: 750000; DatasheetVersion: Rev. 03; PackageVersion: 03-02-19, 02/2003; PackageReference: SOT163-1; PackageDescription: 20-Pin Plastic Small Outline Package, Body 12.8 x 7.5 mm, Pitch 1.27 mm; Packing: Reel; Mounting Technology: Surface Mount; Code_JEDEC: MS-013; ComponentLink1Description: Manufacturer URL; ComponentLink1URL: http://www.nxp.com/; ComponentLink2Description: Datasheet; ComponentLink2URL: http://www.nxp.com/documents/data_sheet/BUK9MHH-65PNN.pdf; ComponentLink3Description: Package Specification; ComponentLink3URL: http://www.nxp.com/documents/outline_drawing/sot163-1_po.pdf
footprint NXP-SOT163-1_N (SOP, 20-Leads, Body 13x7.60mm, Pitch 1.27mm, IPC Medium Density)
footprint NXP-SOT163-1_L (SOP, 20-Leads, Body 13x7.60mm, Pitch 1.27mm, IPC High Density)
footprint NXP-SOT163-1_M (SOP, 20-Leads, Body 13x7.60mm, Pitch 1.27mm, IPC Low Density)
part A pins: 1 G1 "gate 1", 2 IS1 "current sense 1", 3 D1 "drain", 4 A1 "anode 1", 5 C1 "cathode 1", 16 D1 "drain 1", 17 KS1 "Kelvin source 1", 18 S1 "source 1", 19 S1 "source 1", 20 D1 "drain 1"
part B pins: 6 G2 "gate 2", 7 IS2 "current sense 2", 8 D2 "drain 2", 9 A2 "anode 2", 10 C2 "cathode 2", 11 D2 "drain 2", 12 KS2 "Kelvin source 2", 13 S2 "source 2", 14 S2 "source 2", 15 D2 "drain 2"
part A text: 3, 16, 20; 18, 19
part B text: 8, 11, 15; 13, 14

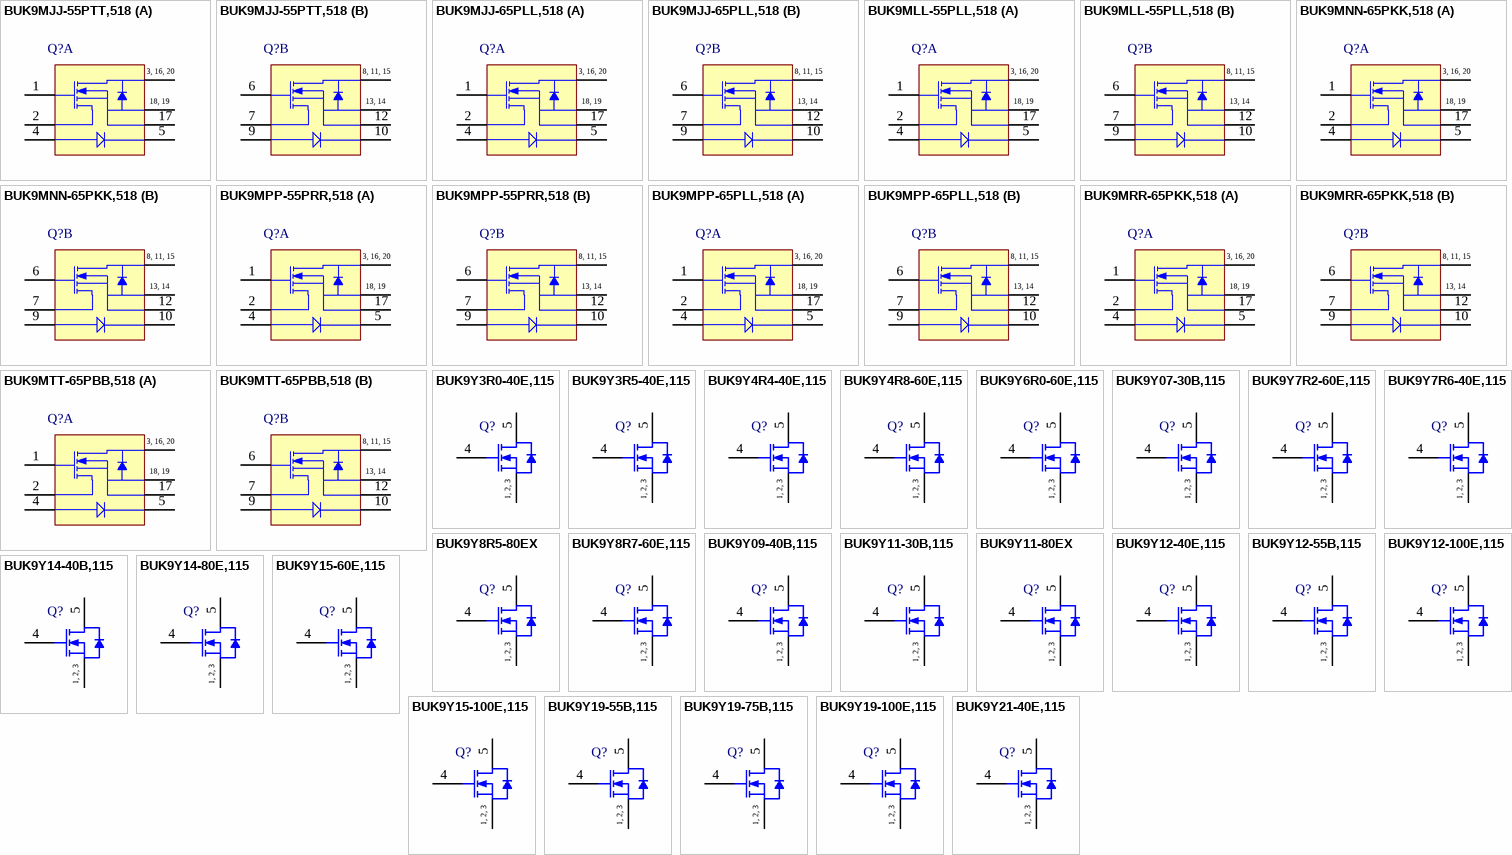
[diagram p4: symbols BUK9MJJ-55PTT,518 to BUK9Y21-40E,115]

## BUK9MJJ-55PTT,518
designator Q?
Dual N-Channel TrenchPLUS Logic Level FET, 55 V, 12.9 A, 20-Pin SOT163-1, Reel; Manufacturer: NXP Semiconductors; PartNumber: BUK9MJJ-55PTT,518; Automotive Qualified: Y; Channel Type: N; ID [max] (A): 12.9; IDM [max] (A): 230; Qr [typ] (nC): 88; VDS [max] (V): 55; VGSth [typ] (V): 1.5; Code_IEC: 750000; DatasheetVersion: Rev. 01; PackageVersion: 03-02-19, 02/2003; PackageReference: SOT163-1; PackageDescription: 20-Pin Plastic Small Outline Package, Body 12.8 x 7.5 mm, Pitch 1.27 mm; Packing: Reel; Mounting Technology: Surface Mount; Code_JEDEC: MS-013; ComponentLink1Description: Manufacturer URL; ComponentLink1URL: http://www.nxp.com/; ComponentLink2Description: Datasheet; ComponentLink2URL: http://www.nxp.com/documents/data_sheet/BUK9MJJ-55PTT.pdf; ComponentLink3Description: Package Specification; ComponentLink3URL: http://www.nxp.com/documents/outline_drawing/sot163-1_po.pdf
footprint NXP-SOT163-1_N (SOP, 20-Leads, Body 13x7.60mm, Pitch 1.27mm, IPC Medium Density)
footprint NXP-SOT163-1_L (SOP, 20-Leads, Body 13x7.60mm, Pitch 1.27mm, IPC High Density)
footprint NXP-SOT163-1_M (SOP, 20-Leads, Body 13x7.60mm, Pitch 1.27mm, IPC Low Density)
part A pins: 1 G1 "gate 1", 2 IS1 "current sense 1", 3 D1 "drain", 4 A1 "anode 1", 5 C1 "cathode 1", 16 D1 "drain 1", 17 KS1 "Kelvin source 1", 18 S1 "source 1", 19 S1 "source 1", 20 D1 "drain 1"
part B pins: 6 G2 "gate 2", 7 IS2 "current sense 2", 8 D2 "drain 2", 9 A2 "anode 2", 10 C2 "cathode 2", 11 D2 "drain 2", 12 KS2 "Kelvin source 2", 13 S2 "source 2", 14 S2 "source 2", 15 D2 "drain 2"
part A text: 3, 16, 20; 18, 19
part B text: 8, 11, 15; 13, 14

## BUK9MJJ-65PLL,518
designator Q?
Dual N-Channel TrenchPLUS Logic Level FET, 65 V, 11.6 A, 20-Pin SOT163-1, Reel; Manufacturer: NXP Semiconductors; PartNumber: BUK9MJJ-65PLL,518; Automotive Qualified: Y; Channel Type: N; ID [max] (A): 11.6; IDM [max] (A): 212; Qr [typ] (nC): 0.125; VDS [max] (V): 65; VGSth [typ] (V): 1.5; Code_IEC: 750000; DatasheetVersion: Rev. 03; PackageVersion: 03-02-19, 02/2003; PackageReference: SOT163-1; PackageDescription: 20-Pin Plastic Small Outline Package, Body 12.8 x 7.5 mm, Pitch 1.27 mm; Packing: Reel; Mounting Technology: Surface Mount; Code_JEDEC: MS-013; ComponentLink1Description: Manufacturer URL; ComponentLink1URL: http://www.nxp.com/; ComponentLink2Description: Datasheet; ComponentLink2URL: http://www.nxp.com/documents/data_sheet/BUK9MJJ-65PLL.pdf; ComponentLink3Description: Package Specification; ComponentLink3URL: http://www.nxp.com/documents/outline_drawing/sot163-1_po.pdf
footprint NXP-SOT163-1_N (SOP, 20-Leads, Body 13x7.60mm, Pitch 1.27mm, IPC Medium Density)
footprint NXP-SOT163-1_L (SOP, 20-Leads, Body 13x7.60mm, Pitch 1.27mm, IPC High Density)
footprint NXP-SOT163-1_M (SOP, 20-Leads, Body 13x7.60mm, Pitch 1.27mm, IPC Low Density)
part A pins: 1 G1 "gate 1", 2 IS1 "current sense 1", 3 D1 "drain", 4 A1 "anode 1", 5 C1 "cathode 1", 16 D1 "drain 1", 17 KS1 "Kelvin source 1", 18 S1 "source 1", 19 S1 "source 1", 20 D1 "drain 1"
part B pins: 6 G2 "gate 2", 7 IS2 "current sense 2", 8 D2 "drain 2", 9 A2 "anode 2", 10 C2 "cathode 2", 11 D2 "drain 2", 12 KS2 "Kelvin source 2", 13 S2 "source 2", 14 S2 "source 2", 15 D2 "drain 2"
part A text: 3, 16, 20; 18, 19
part B text: 8, 11, 15; 13, 14

## BUK9MLL-55PLL,518
designator Q?
Dual N-Channel TrenchPLUS Logic Level FET, 55 V, 5.9 A, 20-Pin SOT163-1, Reel; Manufacturer: NXP Semiconductors; PartNumber: BUK9MLL-55PLL,518; Automotive Qualified: Y; Channel Type: N; ID [max] (A): 5.9; IDM [max] (A): 61.3; Qr [typ] (nC): 57; VDS [max] (V): 55; VGSth [typ] (V): 1.5; Code_IEC: 750000; DatasheetVersion: Rev. 01; PackageVersion: 03-02-19, 02/2003; PackageReference: SOT163-1; PackageDescription: 20-Pin Plastic Small Outline Package, Body 12.8 x 7.5 mm, Pitch 1.27 mm; Packing: Reel; Mounting Technology: Surface Mount; Code_JEDEC: MS-013; ComponentLink1Description: Manufacturer URL; ComponentLink1URL: http://www.nxp.com/; ComponentLink2Description: Datasheet; ComponentLink2URL: http://www.nxp.com/documents/data_sheet/BUK9MLL-55PLL.pdf; ComponentLink3Description: Package Specification; ComponentLink3URL: http://www.nxp.com/documents/outline_drawing/sot163-1_po.pdf
footprint NXP-SOT163-1_N (SOP, 20-Leads, Body 13x7.60mm, Pitch 1.27mm, IPC Medium Density)
footprint NXP-SOT163-1_L (SOP, 20-Leads, Body 13x7.60mm, Pitch 1.27mm, IPC High Density)
footprint NXP-SOT163-1_M (SOP, 20-Leads, Body 13x7.60mm, Pitch 1.27mm, IPC Low Density)
part A pins: 1 G1 "gate 1", 2 IS1 "current sense 1", 3 D1 "drain", 4 A1 "anode 1", 5 C1 "cathode 1", 16 D1 "drain 1", 17 KS1 "Kelvin source 1", 18 S1 "source 1", 19 S1 "source 1", 20 D1 "drain 1"
part B pins: 6 G2 "gate 2", 7 IS2 "current sense 2", 8 D2 "drain 2", 9 A2 "anode 2", 10 C2 "cathode 2", 11 D2 "drain 2", 12 KS2 "Kelvin source 2", 13 S2 "source 2", 14 S2 "source 2", 15 D2 "drain 2"
part A text: 3, 16, 20; 18, 19
part B text: 8, 11, 15; 13, 14

## BUK9MNN-65PKK,518
designator Q?
Dual N-Channel TrenchPLUS Logic Level FET, 65 V, 7.1 A, 20-Pin SOT163-1, Reel; Manufacturer: NXP Semiconductors; PartNumber: BUK9MNN-65PKK,518; Automotive Qualified: Y; Channel Type: N; ID [max] (A): 7.1; IDM [max] (A): 96.6; Qr [typ] (nC): 0.073; VDS [max] (V): 65; VGSth [typ] (V): 1.5; Code_IEC: 750000; DatasheetVersion: Rev. 03; PackageVersion: 03-02-19, 02/2003; PackageReference: SOT163-1; PackageDescription: 20-Pin Plastic Small Outline Package, Body 12.8 x 7.5 mm, Pitch 1.27 mm; Packing: Reel; Mounting Technology: Surface Mount; Code_JEDEC: MS-013; ComponentLink1Description: Manufacturer URL; ComponentLink1URL: http://www.nxp.com/; ComponentLink2Description: Datasheet; ComponentLink2URL: http://www.nxp.com/documents/data_sheet/BUK9MNN-65PKK.pdf; ComponentLink3Description: Package Specification; ComponentLink3URL: http://www.nxp.com/documents/outline_drawing/sot163-1_po.pdf
footprint NXP-SOT163-1_N (SOP, 20-Leads, Body 13x7.60mm, Pitch 1.27mm, IPC Medium Density)
footprint NXP-SOT163-1_L (SOP, 20-Leads, Body 13x7.60mm, Pitch 1.27mm, IPC High Density)
footprint NXP-SOT163-1_M (SOP, 20-Leads, Body 13x7.60mm, Pitch 1.27mm, IPC Low Density)
part A pins: 1 G1 "gate 1", 2 IS1 "current sense 1", 3 D1 "drain", 4 A1 "anode 1", 5 C1 "cathode 1", 16 D1 "drain 1", 17 KS1 "Kelvin source 1", 18 S1 "source 1", 19 S1 "source 1", 20 D1 "drain 1"
part B pins: 6 G2 "gate 2", 7 IS2 "current sense 2", 8 D2 "drain 2", 9 A2 "anode 2", 10 C2 "cathode 2", 11 D2 "drain 2", 12 KS2 "Kelvin source 2", 13 S2 "source 2", 14 S2 "source 2", 15 D2 "drain 2"
part A text: 3, 16, 20; 18, 19
part B text: 8, 11, 15; 13, 14

## BUK9MPP-55PRR,518
designator Q?
Dual N-Channel TrenchPLUS Logic Level FET, 55 V, 9.16 A, 20-Pin SOT163-1, Reel; Manufacturer: NXP Semiconductors; PartNumber: BUK9MPP-55PRR,518; Automotive Qualified: Y; Channel Type: N; ID [max] (A): 9.16; IDM [max] (A): 144; Qr [typ] (nC): 69; VDS [max] (V): 55; VGSth [typ] (V): 1.5; Code_IEC: 750000; DatasheetVersion: Rev. 01; PackageVersion: 03-02-19, 02/2003; PackageReference: SOT163-1; PackageDescription: 20-Pin Plastic Small Outline Package, Body 12.8 x 7.5 mm, Pitch 1.27 mm; Packing: Reel; Mounting Technology: Surface Mount; Code_JEDEC: MS-013; ComponentLink1Description: Manufacturer URL; ComponentLink1URL: http://www.nxp.com/; ComponentLink2Description: Datasheet; ComponentLink2URL: http://www.nxp.com/documents/data_sheet/BUK9MPP-55PRR.pdf; ComponentLink3Description: Package Specification; ComponentLink3URL: http://www.nxp.com/documents/outline_drawing/sot163-1_po.pdf
footprint NXP-SOT163-1_N (SOP, 20-Leads, Body 13x7.60mm, Pitch 1.27mm, IPC Medium Density)
footprint NXP-SOT163-1_L (SOP, 20-Leads, Body 13x7.60mm, Pitch 1.27mm, IPC High Density)
footprint NXP-SOT163-1_M (SOP, 20-Leads, Body 13x7.60mm, Pitch 1.27mm, IPC Low Density)
part A pins: 1 G1 "gate 1", 2 IS1 "current sense 1", 3 D1 "drain", 4 A1 "anode 1", 5 C1 "cathode 1", 16 D1 "drain 1", 17 KS1 "Kelvin source 1", 18 S1 "source 1", 19 S1 "source 1", 20 D1 "drain 1"
part B pins: 6 G2 "gate 2", 7 IS2 "current sense 2", 8 D2 "drain 2", 9 A2 "anode 2", 10 C2 "cathode 2", 11 D2 "drain 2", 12 KS2 "Kelvin source 2", 13 S2 "source 2", 14 S2 "source 2", 15 D2 "drain 2"
part A text: 3, 16, 20; 18, 19
part B text: 8, 11, 15; 13, 14

## BUK9MPP-65PLL,518
designator Q?
Dual N-Channel TrenchPLUS Logic Level FET, 65 V, 8.6 A, 20-Pin SOT163-1, Reel; Manufacturer: NXP Semiconductors; PartNumber: BUK9MPP-65PLL,518; Automotive Qualified: Y; Channel Type: N; ID [max] (A): 8.6; IDM [max] (A): 135.7; Qr [typ] (nC): 0.09; VDS [max] (V): 65; VGSth [typ] (V): 1.5; Code_IEC: 750000; DatasheetVersion: Rev. 03; PackageVersion: 03-02-19, 02/2003; PackageReference: SOT163-1; PackageDescription: 20-Pin Plastic Small Outline Package, Body 12.8 x 7.5 mm, Pitch 1.27 mm; Packing: Reel; Mounting Technology: Surface Mount; Code_JEDEC: MS-013; ComponentLink1Description: Manufacturer URL; ComponentLink1URL: http://www.nxp.com/; ComponentLink2Description: Datasheet; ComponentLink2URL: http://www.nxp.com/documents/data_sheet/BUK9MPP-65PLL.pdf; ComponentLink3Description: Package Specification; ComponentLink3URL: http://www.nxp.com/documents/outline_drawing/sot163-1_po.pdf
footprint NXP-SOT163-1_N (SOP, 20-Leads, Body 13x7.60mm, Pitch 1.27mm, IPC Medium Density)
footprint NXP-SOT163-1_L (SOP, 20-Leads, Body 13x7.60mm, Pitch 1.27mm, IPC High Density)
footprint NXP-SOT163-1_M (SOP, 20-Leads, Body 13x7.60mm, Pitch 1.27mm, IPC Low Density)
part A pins: 1 G1 "gate 1", 2 IS1 "current sense 1", 3 D1 "drain", 4 A1 "anode 1", 5 C1 "cathode 1", 16 D1 "drain 1", 17 KS1 "Kelvin source 1", 18 S1 "source 1", 19 S1 "source 1", 20 D1 "drain 1"
part B pins: 6 G2 "gate 2", 7 IS2 "current sense 2", 8 D2 "drain 2", 9 A2 "anode 2", 10 C2 "cathode 2", 11 D2 "drain 2", 12 KS2 "Kelvin source 2", 13 S2 "source 2", 14 S2 "source 2", 15 D2 "drain 2"
part A text: 3, 16, 20; 18, 19
part B text: 8, 11, 15; 13, 14

## BUK9MRR-65PKK,518
designator Q?
Dual N-Channel TrenchPLUS Logic Level FET, 65 V, 4.8 A, 20-Pin SOT163-1, Reel; Manufacturer: NXP Semiconductors; PartNumber: BUK9MRR-65PKK,518; Automotive Qualified: Y; Channel Type: N; ID [max] (A): 4.8; IDM [max] (A): 50; Qr [typ] (nC): 0.087; VDS [max] (V): 65; VGSth [typ] (V): 1.5; Code_IEC: 750000; DatasheetVersion: Rev. 02; PackageVersion: 03-02-19, 02/2003; PackageReference: SOT163-1; PackageDescription: 20-Pin Plastic Small Outline Package, Body 12.8 x 7.5 mm, Pitch 1.27 mm; Packing: Reel; Mounting Technology: Surface Mount; Code_JEDEC: MS-013; ComponentLink1Description: Manufacturer URL; ComponentLink1URL: http://www.nxp.com/; ComponentLink2Description: Datasheet; ComponentLink2URL: http://www.nxp.com/documents/data_sheet/BUK9MRR-65PKK.pdf; ComponentLink3Description: Package Specification; ComponentLink3URL: http://www.nxp.com/documents/outline_drawing/sot163-1_po.pdf
footprint NXP-SOT163-1_N (SOP, 20-Leads, Body 13x7.60mm, Pitch 1.27mm, IPC Medium Density)
footprint NXP-SOT163-1_L (SOP, 20-Leads, Body 13x7.60mm, Pitch 1.27mm, IPC High Density)
footprint NXP-SOT163-1_M (SOP, 20-Leads, Body 13x7.60mm, Pitch 1.27mm, IPC Low Density)
part A pins: 1 G1 "gate 1", 2 IS1 "current sense 1", 3 D1 "drain", 4 A1 "anode 1", 5 C1 "cathode 1", 16 D1 "drain 1", 17 KS1 "Kelvin source 1", 18 S1 "source 1", 19 S1 "source 1", 20 D1 "drain 1"
part B pins: 6 G2 "gate 2", 7 IS2 "current sense 2", 8 D2 "drain 2", 9 A2 "anode 2", 10 C2 "cathode 2", 11 D2 "drain 2", 12 KS2 "Kelvin source 2", 13 S2 "source 2", 14 S2 "source 2", 15 D2 "drain 2"
part A text: 3, 16, 20; 18, 19
part B text: 8, 11, 15; 13, 14

## BUK9MTT-65PBB,518
designator Q?
Dual N-Channel TrenchPLUS Logic Level FET, 65 V, 3.8 A, 20-Pin SOT163-1, Reel; Manufacturer: NXP Semiconductors; PartNumber: BUK9MTT-65PBB,518; Automotive Qualified: Y; Channel Type: N; ID [max] (A): 3.8; IDM [max] (A): 32.4; Qr [typ] (nC): 0.092; VDS [max] (V): 65; VGSth [typ] (V): 1.5; Code_IEC: 750000; DatasheetVersion: Rev. 02; PackageVersion: 03-02-19, 02/2003; PackageReference: SOT163-1; PackageDescription: 20-Pin Plastic Small Outline Package, Body 12.8 x 7.5 mm, Pitch 1.27 mm; Packing: Reel; Mounting Technology: Surface Mount; Code_JEDEC: MS-013; ComponentLink1Description: Manufacturer URL; ComponentLink1URL: http://www.nxp.com/; ComponentLink2Description: Datasheet; ComponentLink2URL: http://www.nxp.com/documents/data_sheet/BUK9MTT-65PBB.pdf; ComponentLink3Description: Package Specification; ComponentLink3URL: http://www.nxp.com/documents/outline_drawing/sot163-1_po.pdf
footprint NXP-SOT163-1_N (SOP, 20-Leads, Body 13x7.60mm, Pitch 1.27mm, IPC Medium Density)
footprint NXP-SOT163-1_L (SOP, 20-Leads, Body 13x7.60mm, Pitch 1.27mm, IPC High Density)
footprint NXP-SOT163-1_M (SOP, 20-Leads, Body 13x7.60mm, Pitch 1.27mm, IPC Low Density)
part A pins: 1 G1 "gate 1", 2 IS1 "current sense 1", 3 D1 "drain", 4 A1 "anode 1", 5 C1 "cathode 1", 16 D1 "drain 1", 17 KS1 "Kelvin source 1", 18 S1 "source 1", 19 S1 "source 1", 20 D1 "drain 1"
part B pins: 6 G2 "gate 2", 7 IS2 "current sense 2", 8 D2 "drain 2", 9 A2 "anode 2", 10 C2 "cathode 2", 11 D2 "drain 2", 12 KS2 "Kelvin source 2", 13 S2 "source 2", 14 S2 "source 2", 15 D2 "drain 2"
part A text: 3, 16, 20; 18, 19
part B text: 8, 11, 15; 13, 14

## BUK9Y3R0-40E,115
designator Q?
N-Channel Logic Level MOSFET, 40 V, 100 A, 5-Pin SOT669, Tape and Reel; Manufacturer: NXP Semiconductors; PartNumber: BUK9Y3R0-40E,115; Automotive Qualified: Y; Channel Type: N; ID [max] (A): 100; IDM [max] (A): 718; Packing: Tape & Reel; Qr [typ] (nC): 25; VDS [max] (V): 40; VGSth [typ] (V): 1.7; PackageVersion: 13-02-27, 02/2013; PackageReference: SOT669; PackageDescription: 4-Pin Plastic Single-ended Surface Mounted Package, Body 4.9 x 3.95 mm, Pitch 1.27 mm; Supplier 1: Digi-Key; Supplier Part Number 1: 568-10979-2-ND; Supplier 2: Digi-Key; Supplier Part Number 2: 568-10979-1-ND; Supplier 3: Digi-Key; Supplier Part Number 3: 568-10979-6-ND; Supplier 4: Newark; Supplier Part Number 4: 45W7289; Supplier 5: Mouser; Supplier Part Number 5: 771-BUK9Y3R0-40E115; Mounting Technology: Surface Mount; Code_JEDEC: MO-235; ComponentLink1Description: Manufacturer URL; ComponentLink1URL: http://www.nxp.com/; ComponentLink2Description: Datasheet; ComponentLink2URL: http://www.nxp.com/documents/data_sheet/BUK9Y3R0-40E.pdf; ComponentLink3Description: Package Specification; ComponentLink3URL: http://www.nxp.com/documents/outline_drawing/sot669_po.pdf
footprint NXP-SOT669_N (DPAK, 4-Leads, Body 5x4.1mm, Pitch 1.27mm, IPC Medium Density)
footprint NXP-SOT669_L (DPAK, 4-Leads, Body 5x4.1mm, Pitch 1.27mm, IPC High Density)
footprint NXP-SOT669_M (DPAK, 4-Leads, Body 5x4.1mm, Pitch 1.27mm, IPC Low Density)
pins: 1 S "source", 2 S "source", 3 S "source", 4 G "gate", 5 D "mounting base; connected to drain"
text: 1, 2, 3

## BUK9Y3R5-40E,115
designator Q?
N-Channel Logic Level MOSFET, 40 V, 100 A, 5-Pin SOT669, Tape and Reel; Manufacturer: NXP Semiconductors; PartNumber: BUK9Y3R5-40E,115; Automotive Qualified: Y; Channel Type: N; ID [max] (A): 100; IDM [max] (A): 591; Packing: Tape & Reel; Qr [typ] (nC): 19.4; VDS [max] (V): 40; VGSth [typ] (V): 1.7; PackageVersion: 13-02-27, 02/2013; PackageReference: SOT669; PackageDescription: 4-Pin Plastic Single-ended Surface Mounted Package, Body 4.9 x 3.95 mm, Pitch 1.27 mm; Supplier 1: Digi-Key; Supplier Part Number 1: 568-11425-2-ND; Supplier 2: Digi-Key; Supplier Part Number 2: 568-11425-1-ND; Supplier 3: Digi-Key; Supplier Part Number 3: 568-11425-6-ND; Supplier 4: Mouser; Supplier Part Number 4: 771-BUK9Y3R5-40E115; Mounting Technology: Surface Mount; Code_JEDEC: MO-235; ComponentLink1Description: Manufacturer URL; ComponentLink1URL: http://www.nxp.com/; ComponentLink2Description: Datasheet; ComponentLink2URL: http://www.nxp.com/documents/data_sheet/BUK9Y3R5-40E.pdf; ComponentLink3Description: Package Specification; ComponentLink3URL: http://www.nxp.com/documents/outline_drawing/sot669_po.pdf
footprint NXP-SOT669_N (DPAK, 4-Leads, Body 5x4.1mm, Pitch 1.27mm, IPC Medium Density)
footprint NXP-SOT669_L (DPAK, 4-Leads, Body 5x4.1mm, Pitch 1.27mm, IPC High Density)
footprint NXP-SOT669_M (DPAK, 4-Leads, Body 5x4.1mm, Pitch 1.27mm, IPC Low Density)
pins: 1 S "source", 2 S "source", 3 S "source", 4 G "gate", 5 D "mounting base; connected to drain"
text: 1, 2, 3